# EAGLE library part IS31FL3728-QFLS2-TR (library IS31FL3728-QFLS2-TR)
LED Display Drivers Audio Mod Matrix LED Driver Source: Datasheet <https://www.lumissil.com/assets/pdf/core/IS31FL3728_DS.pdf>
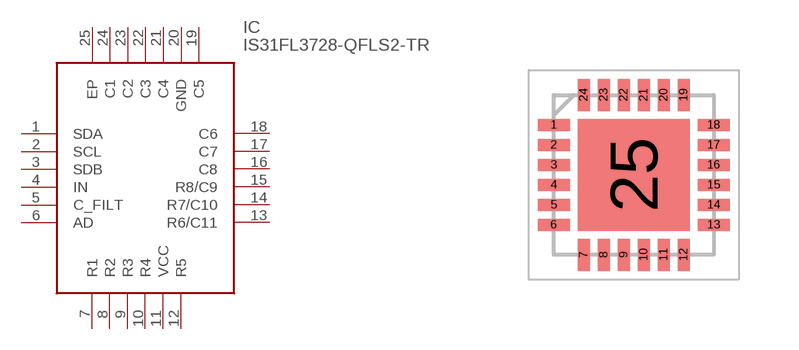
[diagram p0: symbol with the pads of QFN50P400X400X80-25N; footprint QFN50P400X400X80-25N]

Designator prefix IC

## IS31FL3728-QFLS2-TR (Arrow_Part_Number: IS31FL3728-QFLS2-TR; Arrow_Price-Stock: https://www.arrow.com/en/products/is31fl3728-qfls2-tr/integrated-silicon-solution-inc?utm_currency=USD&region=nac; Description: LED Display Drivers Audio Mod Matrix LED Driver; Height: 0.8mm; Manufacturer_Name: Lumissil Microsystems; Manufacturer_Part_Number: IS31FL3728-QFLS2-TR; Mouser_Part_Number: 870-IS31FL3728QFLS2R; Mouser_Price-Stock: https://www.mouser.co.uk/ProductDetail/Lumissil/IS31FL3728-QFLS2-TR?qs=eyrSuY1LhL1XH7a1d6mV0Q%3D%3D)  [QFN50P400X400X80-25N]
1  SDA
2  SCL
3  SDB
4  IN
5  C_FILT
6  AD
7  R1
8  R2
9  R3
10  R4
11  VCC
12  R5
13  R6/C11
14  R7/C10
15  R8/C9
16  C8
17  C7
18  C6
19  C5
20  GND
21  C4
22  C3
23  C2
24  C1
25  EP

## Footprint QFN50P400X400X80-25N (pad centres in mm)
QFN-24 PACKAGE*
smd 0.8 x 0.3: 1 -2,1.25; 2 -2,0.75; 3 -2,0.25; 4 -2,-0.25; 5 -2,-0.75; 6 -2,-1.25; 13 2,-1.25; 14 2,-0.75; 15 2,-0.25; 16 2,0.25; 17 2,0.75; 18 2,1.25
smd 0.3 x 0.8: 7 -1.25,-2; 8 -0.75,-2; 9 -0.25,-2; 10 0.25,-2; 11 0.75,-2; 12 1.25,-2; 19 1.25,2; 20 0.75,2; 21 0.25,2; 22 -0.25,2; 23 -0.75,2; 24 -1.25,2
smd 2.8 x 2.8: 25 0,0